# EAGLE library part SST25VF064C (library memory-sst)
EEPROM 64 Mbit SPI Serial Dual I/O Flash
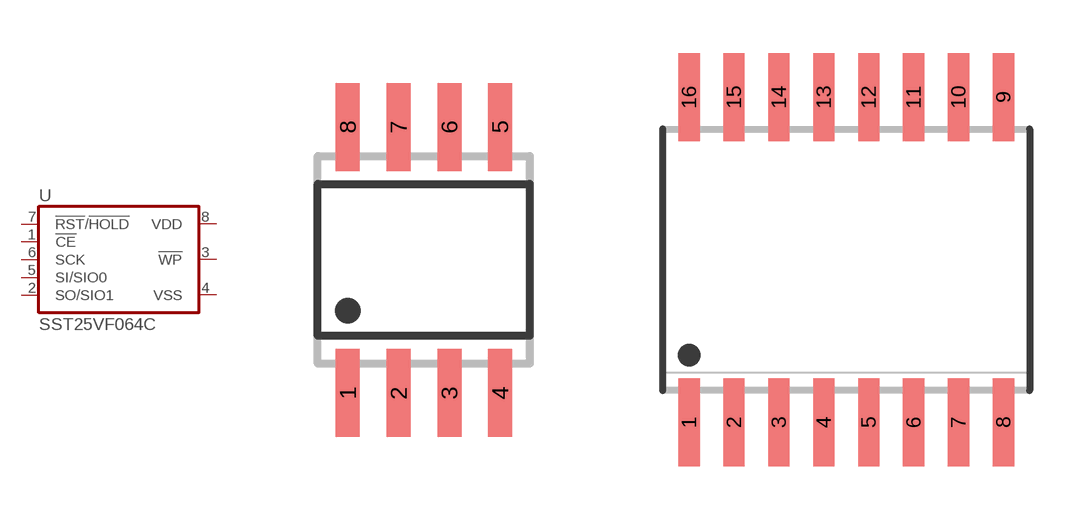
[diagram p1: symbol with the pads of SO08-S2A; footprints SO08-S2A, SO16W]

Designator prefix U

## SST25VF064C-S3  [SO08-S2A]
1  !CE!  in
2  SO/SIO1  out
3  !WP!  in
4  VSS  pwr
5  SI/SIO0  in
6  SCK  in
7  !RST!/!HOLD!  in
8  VDD  pwr

## SST25VF064C-S  [SO16W]
1  !RST!/!HOLD!  in
2  VDD  pwr
7  !CE!  in
8  SO/SIO1  out
9  !WP!  in
10  VSS  pwr
15  SI/SIO0  in
16  SCK  in

## SST25VF064C-Q2  [WSON8-Q2A]
Pads as for SO08-S2A

## Footprint SO08-S2A (pad centres in mm)
SMALL OUTLINE INTEGRATED CIRCUIT 200 MIL BODY WIDTH (5.2MM X 8MM)
smd 0.6 x 2.2: 1 -1.905,-3.33; 2 -0.635,-3.33; 3 0.635,-3.33; 4 1.905,-3.33; 5 1.905,3.33; 6 0.635,3.33; 7 -0.635,3.33; 8 -1.905,3.33

## Footprint SO16W (pad centres in mm)
SMALL OUTLINE INTEGRATED CIRCUIT wide body 7.5 mm/JEDEC MS-013AA
smd 0.6 x 2.5: 1 -4.445,-4.6; 2 -3.175,-4.6; 3 -1.905,-4.6; 4 -0.635,-4.6; 5 0.635,-4.6; 6 1.905,-4.6; 7 3.175,-4.6; 8 4.445,-4.6; 9 4.445,4.6; 10 3.175,4.6; 11 1.905,4.6; 12 0.635,4.6; 13 -0.635,4.6; 14 -1.905,4.6; 15 -3.175,4.6; 16 -4.445,4.6

## Footprint WSON8-Q2A (pad centres in mm)
8-WSON-Q2A 8-Contact Very-very-thin Small Outline No-lead body 8.00 x 6.00 mm
smd 0.635 x 1.27: 1 -1.905,-4.064; 2 -0.635,-4.064; 3 0.635,-4.064; 4 1.905,-4.064; 5 1.905,4.064; 6 0.635,4.064; 7 -0.635,4.064; 8 -1.905,4.064